# EAGLE library part TS5A9411 (library LinnesLab-AnalogIC)
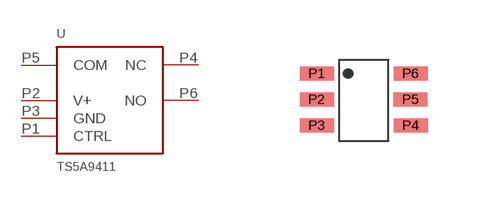
[diagram p5: symbol with the pads of SOT-363; footprint SOT-363]

Designator prefix -

## TS5A9411  [SOT-363]
P1  CTRL
P2  V+
P3  GND
P4  NC
P5  COM
P6  NO

## Footprint SOT-363 (pad centres in mm)
smd 0.85 x 0.35: P1 -1.176,0.611; P2 -1.18,-0.038; P3 -1.176,-0.689; P4 1.172,-0.689; P5 1.168,-0.038; P6 1.172,0.611